# Altium schematic symbol library HCSM2818FT10L0.SchLib: 1 symbol
Pins are listed as number, name and electrical type; pins without a type are passive.

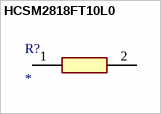
[diagram p0: symbol HCSM2818FT10L0]

## HCSM2818FT10L0
designator R?
Resistor; Manufacturer_Name: Stackpole Electronics; Manufacturer_Part_Number: HCSM2818FT10L0; Datasheet Link: https://cs.seielect.com/catalog/SEI-HCSM.pdf; Height: 1.9mm; Arrow Part Number: HCSM2818FT10L0; Arrow Price/Stock: https://www.arrow.com/en/products/hcsm2818ft10l0/stackpole-electronics
footprint RESC7250X190N
pins: 1, 2